# Altium footprint library other.PcbLib: 3 footprints
Each footprint in its own frame and in the unit in brackets; x right, y up, seen from the top. Pads: shape width x height; smd on the part's side, far side on the other; paste and mask are expansions set on the pad; w line width, h text height; cw(c..) or ccw(c..) is an arc to the next point about the centre after c.
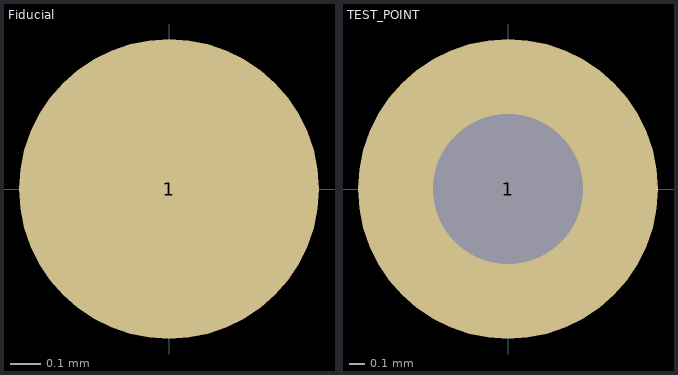
[diagram p0: the footprints below, top view; thin cyan lines are the x and y axes]

## Fiducial [mm]
pads (1):
  round 1 smd mask+0.15: 1(0,0)

## Pixhawk 2.1 Cube [mm]
3D body "CUBE_ORANGE.step": height 7.72, standoff 0.35, extent -17,-17 17,18.451

## TEST_POINT [mm]
pads (1):
  round 2 hole 1: 1(0,0)